# EAGLE library part 12P_HEADER (library TRISThisConnectors)
Buchanan 282834-12
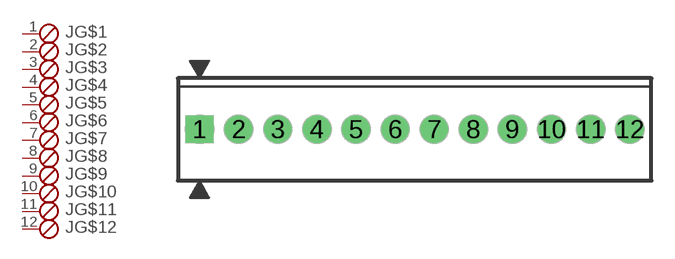
[diagram p3: symbol with the pads of 12POL254; footprint 12POL254]

Designator prefix J; gates G$1=SKB G$2=SKB G$3=SKB G$4=SKB G$5=SKB G$6=SKB G$7=SKB G$8=SKB G$9=SKB G$10=SKB G$11=SKB G$12=SKB

## 12P_HEADER  [12POL254]
1  G$1:1  pas
2  G$2:1  pas
3  G$3:1  pas
4  G$4:1  pas
5  G$5:1  pas
6  G$6:1  pas
7  G$7:1  pas
8  G$8:1  pas
9  G$9:1  pas
10  G$10:1  pas
11  G$11:1  pas
12  G$12:1  pas

## Footprint 12POL254 (pad centres in mm)
drill 1.2 square: 1 -13.97,0
drill 1.2 round: 2 -11.43,0; 3 -8.89,0; 4 -6.35,0; 5 -3.81,0; 6 -1.27,0; 7 1.27,0; 8 3.81,0; 9 6.35,0; 10 8.89,0; 11 11.43,0; 12 13.97,0